# Altium footprint library QFP_Thin_Sq_40P_Side_L.PcbLib: 9 footprints
Each footprint in its own frame and in the unit in brackets; x right, y up, seen from the top. Pads: shape width x height; smd on the part's side, far side on the other; paste and mask are expansions set on the pad; w line width, h text height; cw(c..) or ccw(c..) is an arc to the next point about the centre after c.
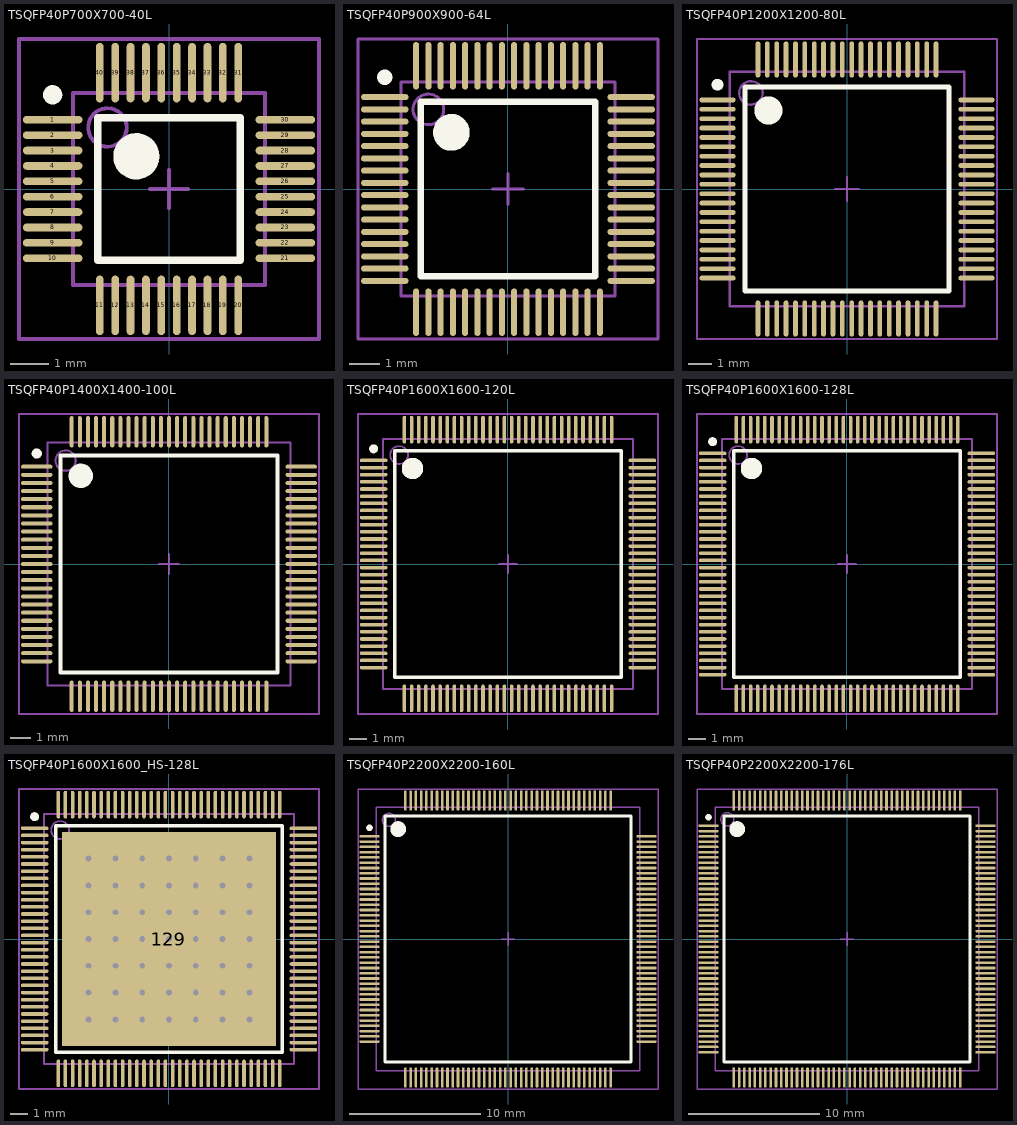
[diagram p0: the footprints below, top view; thin cyan lines are the x and y axes]

## TSQFP40P700X700-40L [mm] "Thin QFP, 40-Leads, Body 5x5mm, Pitch 0.4mm, IPC High Density"
height 1.2
pads (40):
  oval 1.55x0.2 smd: 1(-3.025,1.8) 2(-3.025,1.4) 3(-3.025,1) 4(-3.025,0.6) 5(-3.025,0.2) 6(-3.025,-0.2) 7(-3.025,-0.6) 8(-3.025,-1) 9(-3.025,-1.4) 10(-3.025,-1.8) 21(3.025,-1.8) 22(3.025,-1.4) 23(3.025,-1) 24(3.025,-0.6) 25(3.025,-0.2) 26(3.025,0.2) 27(3.025,0.6) 28(3.025,1) 29(3.025,1.4) 30(3.025,1.8)
  oval 0.2x1.55 smd: 11(-1.8,-3.025) 12(-1.4,-3.025) 13(-1,-3.025) 14(-0.6,-3.025) 15(-0.2,-3.025) 16(0.2,-3.025) 17(0.6,-3.025) 18(1,-3.025) 19(1.4,-3.025) 20(1.8,-3.025) 31(1.8,3.025) 32(1.4,3.025) 33(1,3.025) 34(0.6,3.025) 35(0.2,3.025) 36(-0.2,3.025) 37(-0.6,3.025) 38(-1,3.025) 39(-1.4,3.025) 40(-1.8,3.025)
Top Overlay:
  circle w0.25: c-3.025,2.45 r0.125
  circle w0.6: c-0.85,0.85 r0.3
  lines w0.2: -1.85,-1.85 -1.85,1.85 1.85,1.85 1.85,-1.85 -1.85,-1.85
Mechanical 13:
  circle w0.1: c-1.6,1.6 r0.5
  lines w0.1: -2.5,-2.5 -2.5,2.5 2.5,2.5 2.5,-2.5 -2.5,-2.5
Mechanical 15:
  lines w0.1: -0.5,0 0.5,0 ; 0,-0.5 0,0.5 ; -3.9,-3.9 -3.9,3.9 3.9,3.9 3.9,-3.9 -3.9,-3.9
3D body: height 1.2, standoff 0, extent -2.5,-2.5 2.5,2.5

## TSQFP40P900X900-64L [mm] "Thin QFP, 64-Leads, Body 7x7mm, Pitch 0.4mm, IPC High Density"
height 1.2
pads (64):
  oval 1.55x0.2 smd: 1(-4.025,3) 2(-4.025,2.6) 3(-4.025,2.2) 4(-4.025,1.8) 5(-4.025,1.4) 6(-4.025,1) 7(-4.025,0.6) 8(-4.025,0.2) 9(-4.025,-0.2) 10(-4.025,-0.6) 11(-4.025,-1) 12(-4.025,-1.4) 13(-4.025,-1.8) 14(-4.025,-2.2) 15(-4.025,-2.6) 16(-4.025,-3) 33(4.025,-3) 34(4.025,-2.6) 35(4.025,-2.2) 36(4.025,-1.8) 37(4.025,-1.4) 38(4.025,-1) 39(4.025,-0.6) 40(4.025,-0.2) 41(4.025,0.2) 42(4.025,0.6) 43(4.025,1) 44(4.025,1.4) 45(4.025,1.8) 46(4.025,2.2) 47(4.025,2.6) 48(4.025,3)
  oval 0.2x1.55 smd: 17(-3,-4.025) 18(-2.6,-4.025) 19(-2.2,-4.025) 20(-1.8,-4.025) 21(-1.4,-4.025) 22(-1,-4.025) 23(-0.6,-4.025) 24(-0.2,-4.025) 25(0.2,-4.025) 26(0.6,-4.025) 27(1,-4.025) 28(1.4,-4.025) 29(1.8,-4.025) 30(2.2,-4.025) 31(2.6,-4.025) 32(3,-4.025) 49(3,4.025) 50(2.6,4.025) 51(2.2,4.025) 52(1.8,4.025) 53(1.4,4.025) 54(1,4.025) 55(0.6,4.025) 56(0.2,4.025) 57(-0.2,4.025) 58(-0.6,4.025) 59(-1,4.025) 60(-1.4,4.025) 61(-1.8,4.025) 62(-2.2,4.025) 63(-2.6,4.025) 64(-3,4.025)
Top Overlay:
  circle w0.25: c-4.025,3.65 r0.125
  circle w0.6: c-1.85,1.85 r0.3
  lines w0.2: -2.85,-2.85 -2.85,2.85 2.85,2.85 2.85,-2.85 -2.85,-2.85
Mechanical 13:
  circle w0.1: c-2.6,2.6 r0.5
  lines w0.1: -3.5,-3.5 -3.5,3.5 3.5,3.5 3.5,-3.5 -3.5,-3.5
Mechanical 15:
  lines w0.1: -0.5,0 0.5,0 ; 0,-0.5 0,0.5 ; -4.9,-4.9 -4.9,4.9 4.9,4.9 4.9,-4.9 -4.9,-4.9
3D body: height 1.2, standoff 0, extent -3.5,-3.5 3.5,3.5

## TSQFP40P1200X1200-80L [mm] "Thin QFP, 80-Leads, Body 10x10mm, Pitch 0.4mm, IPC High Density"
height 1.2
pads (80):
  oval 1.55x0.2 smd: 1(-5.525,3.8) 2(-5.525,3.4) 3(-5.525,3) 4(-5.525,2.6) 5(-5.525,2.2) 6(-5.525,1.8) 7(-5.525,1.4) 8(-5.525,1) 9(-5.525,0.6) 10(-5.525,0.2) 11(-5.525,-0.2) 12(-5.525,-0.6) 13(-5.525,-1) 14(-5.525,-1.4) 15(-5.525,-1.8) 16(-5.525,-2.2) 17(-5.525,-2.6) 18(-5.525,-3) 19(-5.525,-3.4) 20(-5.525,-3.8) 41(5.525,-3.8) 42(5.525,-3.4) 43(5.525,-3) 44(5.525,-2.6) 45(5.525,-2.2) 46(5.525,-1.8) 47(5.525,-1.4) 48(5.525,-1) 49(5.525,-0.6) 50(5.525,-0.2) 51(5.525,0.2) 52(5.525,0.6) 53(5.525,1) 54(5.525,1.4) 55(5.525,1.8) 56(5.525,2.2) 57(5.525,2.6) 58(5.525,3) 59(5.525,3.4) 60(5.525,3.8)
  oval 0.2x1.55 smd: 21(-3.8,-5.525) 22(-3.4,-5.525) 23(-3,-5.525) 24(-2.6,-5.525) 25(-2.2,-5.525) 26(-1.8,-5.525) 27(-1.4,-5.525) 28(-1,-5.525) 29(-0.6,-5.525) 30(-0.2,-5.525) 31(0.2,-5.525) 32(0.6,-5.525) 33(1,-5.525) 34(1.4,-5.525) 35(1.8,-5.525) 36(2.2,-5.525) 37(2.6,-5.525) 38(3,-5.525) 39(3.4,-5.525) 40(3.8,-5.525) 61(3.8,5.525) 62(3.4,5.525) 63(3,5.525) 64(2.6,5.525) 65(2.2,5.525) 66(1.8,5.525) 67(1.4,5.525) 68(1,5.525) 69(0.6,5.525) 70(0.2,5.525) 71(-0.2,5.525) 72(-0.6,5.525) 73(-1,5.525) 74(-1.4,5.525) 75(-1.8,5.525) 76(-2.2,5.525) 77(-2.6,5.525) 78(-3,5.525) 79(-3.4,5.525) 80(-3.8,5.525)
Top Overlay:
  circle w0.25: c-5.525,4.45 r0.125
  circle w0.6: c-3.35,3.35 r0.3
  lines w0.2: -4.35,-4.35 -4.35,4.35 4.35,4.35 4.35,-4.35 -4.35,-4.35
Mechanical 13:
  circle w0.1: c-4.1,4.1 r0.5
  lines w0.1: -5,-5 -5,5 5,5 5,-5 -5,-5
Mechanical 15:
  lines w0.1: -0.5,0 0.5,0 ; 0,-0.5 0,0.5 ; -6.4,-6.4 -6.4,6.4 6.4,6.4 6.4,-6.4 -6.4,-6.4
3D body: height 1.2, standoff 0, extent -5,-5 5,5

## TSQFP40P1400X1400-100L [mm] "Thin QFP, 100-Leads, Body 12x12mm, Pitch 0.4mm, IPC High Density"
height 1.2
pads (100):
  oval 1.55x0.2 smd: 1(-6.525,4.8) 2(-6.525,4.4) 3(-6.525,4) 4(-6.525,3.6) 5(-6.525,3.2) 6(-6.525,2.8) 7(-6.525,2.4) 8(-6.525,2) 9(-6.525,1.6) 10(-6.525,1.2) 11(-6.525,0.8) 12(-6.525,0.4) 13(-6.525,0) 14(-6.525,-0.4) 15(-6.525,-0.8) 16(-6.525,-1.2) 17(-6.525,-1.6) 18(-6.525,-2) 19(-6.525,-2.4) 20(-6.525,-2.8) 21(-6.525,-3.2) 22(-6.525,-3.6) 23(-6.525,-4) 24(-6.525,-4.4) 25(-6.525,-4.8) 51(6.525,-4.8) 52(6.525,-4.4) 53(6.525,-4) 54(6.525,-3.6) 55(6.525,-3.2) 56(6.525,-2.8) 57(6.525,-2.4) 58(6.525,-2) 59(6.525,-1.6) 60(6.525,-1.2) 61(6.525,-0.8) 62(6.525,-0.4) 63(6.525,0) 64(6.525,0.4) 65(6.525,0.8) 66(6.525,1.2) 67(6.525,1.6) 68(6.525,2) 69(6.525,2.4) 70(6.525,2.8) 71(6.525,3.2) 72(6.525,3.6) 73(6.525,4) 74(6.525,4.4) 75(6.525,4.8)
  oval 0.2x1.55 smd: 26(-4.8,-6.525) 27(-4.4,-6.525) 28(-4,-6.525) 29(-3.6,-6.525) 30(-3.2,-6.525) 31(-2.8,-6.525) 32(-2.4,-6.525) 33(-2,-6.525) 34(-1.6,-6.525) 35(-1.2,-6.525) 36(-0.8,-6.525) 37(-0.4,-6.525) 38(0,-6.525) 39(0.4,-6.525) 40(0.8,-6.525) 41(1.2,-6.525) 42(1.6,-6.525) 43(2,-6.525) 44(2.4,-6.525) 45(2.8,-6.525) 46(3.2,-6.525) 47(3.6,-6.525) 48(4,-6.525) 49(4.4,-6.525) 50(4.8,-6.525) 76(4.8,6.525) 77(4.4,6.525) 78(4,6.525) 79(3.6,6.525) 80(3.2,6.525) 81(2.8,6.525) 82(2.4,6.525) 83(2,6.525) 84(1.6,6.525) 85(1.2,6.525) 86(0.8,6.525) 87(0.4,6.525) 88(0,6.525) 89(-0.4,6.525) 90(-0.8,6.525) 91(-1.2,6.525) 92(-1.6,6.525) 93(-2,6.525) 94(-2.4,6.525) 95(-2.8,6.525) 96(-3.2,6.525) 97(-3.6,6.525) 98(-4,6.525) 99(-4.4,6.525) 100(-4.8,6.525)
Top Overlay:
  circle w0.25: c-6.525,5.45 r0.125
  circle w0.6: c-4.35,4.35 r0.3
  lines w0.2: -5.35,-5.35 -5.35,5.35 5.35,5.35 5.35,-5.35 -5.35,-5.35
Mechanical 13:
  circle w0.1: c-5.1,5.1 r0.5
  lines w0.1: -6,-6 -6,6 6,6 6,-6 -6,-6
Mechanical 15:
  lines w0.1: -0.5,0 0.5,0 ; 0,-0.5 0,0.5 ; -7.4,-7.4 -7.4,7.4 7.4,7.4 7.4,-7.4 -7.4,-7.4
3D body: height 1.2, standoff 0, extent -6,-6 6,6

## TSQFP40P1600X1600-120L [mm] "Thin QFP, 120-Leads, Body 14x14mm, Pitch 0.4mm, IPC High Density"
height 1.2
pads (120):
  oval 1.55x0.2 smd: 1(-7.525,5.8) 2(-7.525,5.4) 3(-7.525,5) 4(-7.525,4.6) 5(-7.525,4.2) 6(-7.525,3.8) 7(-7.525,3.4) 8(-7.525,3) 9(-7.525,2.6) 10(-7.525,2.2) 11(-7.525,1.8) 12(-7.525,1.4) 13(-7.525,1) 14(-7.525,0.6) 15(-7.525,0.2) 16(-7.525,-0.2) 17(-7.525,-0.6) 18(-7.525,-1) 19(-7.525,-1.4) 20(-7.525,-1.8) 21(-7.525,-2.2) 22(-7.525,-2.6) 23(-7.525,-3) 24(-7.525,-3.4) 25(-7.525,-3.8) 26(-7.525,-4.2) 27(-7.525,-4.6) 28(-7.525,-5) 29(-7.525,-5.4) 30(-7.525,-5.8) 61(7.525,-5.8) 62(7.525,-5.4) 63(7.525,-5) 64(7.525,-4.6) 65(7.525,-4.2) 66(7.525,-3.8) 67(7.525,-3.4) 68(7.525,-3) 69(7.525,-2.6) 70(7.525,-2.2) 71(7.525,-1.8) 72(7.525,-1.4) 73(7.525,-1) 74(7.525,-0.6) 75(7.525,-0.2) 76(7.525,0.2) 77(7.525,0.6) 78(7.525,1) 79(7.525,1.4) 80(7.525,1.8) 81(7.525,2.2) 82(7.525,2.6) 83(7.525,3) 84(7.525,3.4) 85(7.525,3.8) 86(7.525,4.2) 87(7.525,4.6) 88(7.525,5) 89(7.525,5.4) 90(7.525,5.8)
  oval 0.2x1.55 smd: 31(-5.8,-7.525) 32(-5.4,-7.525) 33(-5,-7.525) 34(-4.6,-7.525) 35(-4.2,-7.525) 36(-3.8,-7.525) 37(-3.4,-7.525) 38(-3,-7.525) 39(-2.6,-7.525) 40(-2.2,-7.525) 41(-1.8,-7.525) 42(-1.4,-7.525) 43(-1,-7.525) 44(-0.6,-7.525) 45(-0.2,-7.525) 46(0.2,-7.525) 47(0.6,-7.525) 48(1,-7.525) 49(1.4,-7.525) 50(1.8,-7.525) 51(2.2,-7.525) 52(2.6,-7.525) 53(3,-7.525) 54(3.4,-7.525) 55(3.8,-7.525) 56(4.2,-7.525) 57(4.6,-7.525) 58(5,-7.525) 59(5.4,-7.525) 60(5.8,-7.525) 91(5.8,7.525) 92(5.4,7.525) 93(5,7.525) 94(4.6,7.525) 95(4.2,7.525) 96(3.8,7.525) 97(3.4,7.525) 98(3,7.525) 99(2.6,7.525) 100(2.2,7.525) 101(1.8,7.525) 102(1.4,7.525) 103(1,7.525) 104(0.6,7.525) 105(0.2,7.525) 106(-0.2,7.525) 107(-0.6,7.525) 108(-1,7.525) 109(-1.4,7.525) 110(-1.8,7.525) 111(-2.2,7.525) 112(-2.6,7.525) 113(-3,7.525) 114(-3.4,7.525) 115(-3.8,7.525) 116(-4.2,7.525) 117(-4.6,7.525) 118(-5,7.525) 119(-5.4,7.525) 120(-5.8,7.525)
Top Overlay:
  circle w0.25: c-7.525,6.45 r0.125
  circle w0.6: c-5.35,5.35 r0.3
  lines w0.2: -6.35,-6.35 -6.35,6.35 6.35,6.35 6.35,-6.35 -6.35,-6.35
Mechanical 13:
  circle w0.1: c-6.1,6.1 r0.5
  lines w0.1: -7,-7 -7,7 7,7 7,-7 -7,-7
Mechanical 15:
  lines w0.1: -0.5,0 0.5,0 ; 0,-0.5 0,0.5 ; -8.4,-8.4 -8.4,8.4 8.4,8.4 8.4,-8.4 -8.4,-8.4
3D body: height 1.2, standoff 0, extent -7,-7 7,7

## TSQFP40P1600X1600-128L [mm] "Thin QFP, 128-Leads, Body 14x14mm, Pitch 0.4mm, IPC High Density"
height 1.6
pads (128):
  oval 1.55x0.2 smd: 1(-7.525,6.2) 2(-7.525,5.8) 3(-7.525,5.4) 4(-7.525,5) 5(-7.525,4.6) 6(-7.525,4.2) 7(-7.525,3.8) 8(-7.525,3.4) 9(-7.525,3) 10(-7.525,2.6) 11(-7.525,2.2) 12(-7.525,1.8) 13(-7.525,1.4) 14(-7.525,1) 15(-7.525,0.6) 16(-7.525,0.2) 17(-7.525,-0.2) 18(-7.525,-0.6) 19(-7.525,-1) 20(-7.525,-1.4) 21(-7.525,-1.8) 22(-7.525,-2.2) 23(-7.525,-2.6) 24(-7.525,-3) 25(-7.525,-3.4) 26(-7.525,-3.8) 27(-7.525,-4.2) 28(-7.525,-4.6) 29(-7.525,-5) 30(-7.525,-5.4) 31(-7.525,-5.8) 32(-7.525,-6.2) 65(7.525,-6.2) 66(7.525,-5.8) 67(7.525,-5.4) 68(7.525,-5) 69(7.525,-4.6) 70(7.525,-4.2) 71(7.525,-3.8) 72(7.525,-3.4) 73(7.525,-3) 74(7.525,-2.6) 75(7.525,-2.2) 76(7.525,-1.8) 77(7.525,-1.4) 78(7.525,-1) 79(7.525,-0.6) 80(7.525,-0.2) 81(7.525,0.2) 82(7.525,0.6) 83(7.525,1) 84(7.525,1.4) 85(7.525,1.8) 86(7.525,2.2) 87(7.525,2.6) 88(7.525,3) 89(7.525,3.4) 90(7.525,3.8) 91(7.525,4.2) 92(7.525,4.6) 93(7.525,5) 94(7.525,5.4) 95(7.525,5.8) 96(7.525,6.2)
  oval 0.2x1.55 smd: 33(-6.2,-7.525) 34(-5.8,-7.525) 35(-5.4,-7.525) 36(-5,-7.525) 37(-4.6,-7.525) 38(-4.2,-7.525) 39(-3.8,-7.525) 40(-3.4,-7.525) 41(-3,-7.525) 42(-2.6,-7.525) 43(-2.2,-7.525) 44(-1.8,-7.525) 45(-1.4,-7.525) 46(-1,-7.525) 47(-0.6,-7.525) 48(-0.2,-7.525) 49(0.2,-7.525) 50(0.6,-7.525) 51(1,-7.525) 52(1.4,-7.525) 53(1.8,-7.525) 54(2.2,-7.525) 55(2.6,-7.525) 56(3,-7.525) 57(3.4,-7.525) 58(3.8,-7.525) 59(4.2,-7.525) 60(4.6,-7.525) 61(5,-7.525) 62(5.4,-7.525) 63(5.8,-7.525) 64(6.2,-7.525) 97(6.2,7.525) 98(5.8,7.525) 99(5.4,7.525) 100(5,7.525) 101(4.6,7.525) 102(4.2,7.525) 103(3.8,7.525) 104(3.4,7.525) 105(3,7.525) 106(2.6,7.525) 107(2.2,7.525) 108(1.8,7.525) 109(1.4,7.525) 110(1,7.525) 111(0.6,7.525) 112(0.2,7.525) 113(-0.2,7.525) 114(-0.6,7.525) 115(-1,7.525) 116(-1.4,7.525) 117(-1.8,7.525) 118(-2.2,7.525) 119(-2.6,7.525) 120(-3,7.525) 121(-3.4,7.525) 122(-3.8,7.525) 123(-4.2,7.525) 124(-4.6,7.525) 125(-5,7.525) 126(-5.4,7.525) 127(-5.8,7.525) 128(-6.2,7.525)
Top Overlay:
  circle w0.6: c-5.35,5.35 r0.3
  circle w0.25: c-7.525,6.85 r0.125
  lines w0.2: -6.35,-6.35 6.35,-6.35 6.35,6.35 -6.35,6.35 -6.35,-6.35
Mechanical 13:
  circle w0.1: c-6.1,6.1 r0.5
  lines w0.1: -7,-7 7,-7 7,7 -7,7 -7,-7
Mechanical 15:
  lines w0.1: -0.5,0 0.5,0 ; 0,-0.5 0,0.5 ; -8.4,-8.4 8.4,-8.4 8.4,8.4 -8.4,8.4 -8.4,-8.4
3D body: height 1.6, standoff 0, extent -7,-7 7,7

## TSQFP40P1600X1600_HS-128L [mm] "128-Pin Plastic Quad Flat Pack PowerPAD 0.4mm Pitch"
height 1.2
pads (129):
  oval 1.55x0.2 smd: 1(-7.525,6.2) 2(-7.525,5.8) 3(-7.525,5.4) 4(-7.525,5) 5(-7.525,4.6) 6(-7.525,4.2) 7(-7.525,3.8) 8(-7.525,3.4) 9(-7.525,3) 10(-7.525,2.6) 11(-7.525,2.2) 12(-7.525,1.8) 13(-7.525,1.4) 14(-7.525,1) 15(-7.525,0.6) 16(-7.525,0.2) 17(-7.525,-0.2) 18(-7.525,-0.6) 19(-7.525,-1) 20(-7.525,-1.4) 21(-7.525,-1.8) 22(-7.525,-2.2) 23(-7.525,-2.6) 24(-7.525,-3) 25(-7.525,-3.4) 26(-7.525,-3.8) 27(-7.525,-4.2) 28(-7.525,-4.6) 29(-7.525,-5) 30(-7.525,-5.4) 31(-7.525,-5.8) 32(-7.525,-6.2) 65(7.525,-6.2) 66(7.525,-5.8) 67(7.525,-5.4) 68(7.525,-5) 69(7.525,-4.6) 70(7.525,-4.2) 71(7.525,-3.8) 72(7.525,-3.4) 73(7.525,-3) 74(7.525,-2.6) 75(7.525,-2.2) 76(7.525,-1.8) 77(7.525,-1.4) 78(7.525,-1) 79(7.525,-0.6) 80(7.525,-0.2) 81(7.525,0.2) 82(7.525,0.6) 83(7.525,1) 84(7.525,1.4) 85(7.525,1.8) 86(7.525,2.2) 87(7.525,2.6) 88(7.525,3) 89(7.525,3.4) 90(7.525,3.8) 91(7.525,4.2) 92(7.525,4.6) 93(7.525,5) 94(7.525,5.4) 95(7.525,5.8) 96(7.525,6.2)
  oval 0.2x1.55 smd: 33(-6.2,-7.525) 34(-5.8,-7.525) 35(-5.4,-7.525) 36(-5,-7.525) 37(-4.6,-7.525) 38(-4.2,-7.525) 39(-3.8,-7.525) 40(-3.4,-7.525) 41(-3,-7.525) 42(-2.6,-7.525) 43(-2.2,-7.525) 44(-1.8,-7.525) 45(-1.4,-7.525) 46(-1,-7.525) 47(-0.6,-7.525) 48(-0.2,-7.525) 49(0.2,-7.525) 50(0.6,-7.525) 51(1,-7.525) 52(1.4,-7.525) 53(1.8,-7.525) 54(2.2,-7.525) 55(2.6,-7.525) 56(3,-7.525) 57(3.4,-7.525) 58(3.8,-7.525) 59(4.2,-7.525) 60(4.6,-7.525) 61(5,-7.525) 62(5.4,-7.525) 63(5.8,-7.525) 64(6.2,-7.525) 97(6.2,7.525) 98(5.8,7.525) 99(5.4,7.525) 100(5,7.525) 101(4.6,7.525) 102(4.2,7.525) 103(3.8,7.525) 104(3.4,7.525) 105(3,7.525) 106(2.6,7.525) 107(2.2,7.525) 108(1.8,7.525) 109(1.4,7.525) 110(1,7.525) 111(0.6,7.525) 112(0.2,7.525) 113(-0.2,7.525) 114(-0.6,7.525) 115(-1,7.525) 116(-1.4,7.525) 117(-1.8,7.525) 118(-2.2,7.525) 119(-2.6,7.525) 120(-3,7.525) 121(-3.4,7.525) 122(-3.8,7.525) 123(-4.2,7.525) 124(-4.6,7.525) 125(-5,7.525) 126(-5.4,7.525) 127(-5.8,7.525) 128(-6.2,7.525)
  rect 12x12 smd: 129(0,0)
via 0,0 diameter 0.43 hole 0.33
via 1.5,0 diameter 0.43 hole 0.33
via 3,0 diameter 0.43 hole 0.33
via 4.5,0 diameter 0.43 hole 0.33
via -1.5,0 diameter 0.43 hole 0.33
via -3,0 diameter 0.43 hole 0.33
via -4.5,0 diameter 0.43 hole 0.33
via -4.5,-1.5 diameter 0.43 hole 0.33
via -3,-1.5 diameter 0.43 hole 0.33
via -1.5,-1.5 diameter 0.43 hole 0.33
via 0,-1.5 diameter 0.43 hole 0.33
via 1.5,-1.5 diameter 0.43 hole 0.33
via 3,-1.5 diameter 0.43 hole 0.33
via 4.5,-1.5 diameter 0.43 hole 0.33
via 4.5,-3 diameter 0.43 hole 0.33
via 3,-3 diameter 0.43 hole 0.33
via 1.5,-3 diameter 0.43 hole 0.33
via 0,-3 diameter 0.43 hole 0.33
via -1.5,-3 diameter 0.43 hole 0.33
via -3,-3 diameter 0.43 hole 0.33
via -4.5,-3 diameter 0.43 hole 0.33
via 4.5,1.5 diameter 0.43 hole 0.33
via 3,1.5 diameter 0.43 hole 0.33
via 1.5,1.5 diameter 0.43 hole 0.33
via 0,1.5 diameter 0.43 hole 0.33
via -1.5,1.5 diameter 0.43 hole 0.33
via -3,1.5 diameter 0.43 hole 0.33
via -4.5,1.5 diameter 0.43 hole 0.33
via 4.5,3 diameter 0.43 hole 0.33
via 3,3 diameter 0.43 hole 0.33
via 1.5,3 diameter 0.43 hole 0.33
via 0,3 diameter 0.43 hole 0.33
via -1.5,3 diameter 0.43 hole 0.33
via -3,3 diameter 0.43 hole 0.33
via -4.5,3 diameter 0.43 hole 0.33
via 4.5,4.5 diameter 0.43 hole 0.33
via 3,4.5 diameter 0.43 hole 0.33
via 1.5,4.5 diameter 0.43 hole 0.33
via 0,4.5 diameter 0.43 hole 0.33
via -1.5,4.5 diameter 0.43 hole 0.33
via -3,4.5 diameter 0.43 hole 0.33
via -4.5,4.5 diameter 0.43 hole 0.33
via 4.5,-4.5 diameter 0.43 hole 0.33
via 3,-4.5 diameter 0.43 hole 0.33
via 1.5,-4.5 diameter 0.43 hole 0.33
via 0,-4.5 diameter 0.43 hole 0.33
via -1.5,-4.5 diameter 0.43 hole 0.33
via -3,-4.5 diameter 0.43 hole 0.33
via -4.5,-4.5 diameter 0.43 hole 0.33
Top Overlay:
  circle w0.6: c-5.35,5.35 r0.3
  circle w0.25: c-7.525,6.85 r0.125
  lines w0.2: -6.35,-6.35 6.35,-6.35 6.35,6.35 -6.35,6.35 -6.35,-6.35
Mechanical 13:
  circle w0.1: c-6.1,6.1 r0.5
  lines w0.1: -7,-7 7,-7 7,7 -7,7 -7,-7
Mechanical 15:
  lines w0.1: -0.5,0 0.5,0 ; 0,-0.5 0,0.5 ; -8.4,-8.4 8.4,-8.4 8.4,8.4 -8.4,8.4 -8.4,-8.4
3D body: height 1.2, standoff 0, extent -7,-7 7,7

## TSQFP40P2200X2200-160L [mm] "Thin QFP, 160-Leads, Body 20x20mm, Pitch 0.4mm, IPC High Density"
height 1.6
pads (160):
  oval 1.55x0.2 smd: 1(-10.525,7.8) 2(-10.525,7.4) 3(-10.525,7) 4(-10.525,6.6) 5(-10.525,6.2) 6(-10.525,5.8) 7(-10.525,5.4) 8(-10.525,5) 9(-10.525,4.6) 10(-10.525,4.2) 11(-10.525,3.8) 12(-10.525,3.4) 13(-10.525,3) 14(-10.525,2.6) 15(-10.525,2.2) 16(-10.525,1.8) 17(-10.525,1.4) 18(-10.525,1) 19(-10.525,0.6) 20(-10.525,0.2) 21(-10.525,-0.2) 22(-10.525,-0.6) 23(-10.525,-1) 24(-10.525,-1.4) 25(-10.525,-1.8) 26(-10.525,-2.2) 27(-10.525,-2.6) 28(-10.525,-3) 29(-10.525,-3.4) 30(-10.525,-3.8) 31(-10.525,-4.2) 32(-10.525,-4.6) 33(-10.525,-5) 34(-10.525,-5.4) 35(-10.525,-5.8) 36(-10.525,-6.2) 37(-10.525,-6.6) 38(-10.525,-7) 39(-10.525,-7.4) 40(-10.525,-7.8) 81(10.525,-7.8) 82(10.525,-7.4) 83(10.525,-7) 84(10.525,-6.6) 85(10.525,-6.2) 86(10.525,-5.8) 87(10.525,-5.4) 88(10.525,-5) 89(10.525,-4.6) 90(10.525,-4.2) 91(10.525,-3.8) 92(10.525,-3.4) 93(10.525,-3) 94(10.525,-2.6) 95(10.525,-2.2) 96(10.525,-1.8) 97(10.525,-1.4) 98(10.525,-1) 99(10.525,-0.6) 100(10.525,-0.2) 101(10.525,0.2) 102(10.525,0.6) 103(10.525,1) 104(10.525,1.4) 105(10.525,1.8) 106(10.525,2.2) 107(10.525,2.6) 108(10.525,3) 109(10.525,3.4) 110(10.525,3.8) 111(10.525,4.2) 112(10.525,4.6) 113(10.525,5) 114(10.525,5.4) 115(10.525,5.8) 116(10.525,6.2) 117(10.525,6.6) 118(10.525,7) 119(10.525,7.4) 120(10.525,7.8)
  oval 0.2x1.55 smd: 41(-7.8,-10.525) 42(-7.4,-10.525) 43(-7,-10.525) 44(-6.6,-10.525) 45(-6.2,-10.525) 46(-5.8,-10.525) 47(-5.4,-10.525) 48(-5,-10.525) 49(-4.6,-10.525) 50(-4.2,-10.525) 51(-3.8,-10.525) 52(-3.4,-10.525) 53(-3,-10.525) 54(-2.6,-10.525) 55(-2.2,-10.525) 56(-1.8,-10.525) 57(-1.4,-10.525) 58(-1,-10.525) 59(-0.6,-10.525) 60(-0.2,-10.525) 61(0.2,-10.525) 62(0.6,-10.525) 63(1,-10.525) 64(1.4,-10.525) 65(1.8,-10.525) 66(2.2,-10.525) 67(2.6,-10.525) 68(3,-10.525) 69(3.4,-10.525) 70(3.8,-10.525) 71(4.2,-10.525) 72(4.6,-10.525) 73(5,-10.525) 74(5.4,-10.525) 75(5.8,-10.525) 76(6.2,-10.525) 77(6.6,-10.525) 78(7,-10.525) 79(7.4,-10.525) 80(7.8,-10.525) 121(7.8,10.525) 122(7.4,10.525) 123(7,10.525) 124(6.6,10.525) 125(6.2,10.525) 126(5.8,10.525) 127(5.4,10.525) 128(5,10.525) 129(4.6,10.525) 130(4.2,10.525) 131(3.8,10.525) 132(3.4,10.525) 133(3,10.525) 134(2.6,10.525) 135(2.2,10.525) 136(1.8,10.525) 137(1.4,10.525) 138(1,10.525) 139(0.6,10.525) 140(0.2,10.525) 141(-0.2,10.525) 142(-0.6,10.525) 143(-1,10.525) 144(-1.4,10.525) 145(-1.8,10.525) 146(-2.2,10.525) 147(-2.6,10.525) 148(-3,10.525) 149(-3.4,10.525) 150(-3.8,10.525) 151(-4.2,10.525) 152(-4.6,10.525) 153(-5,10.525) 154(-5.4,10.525) 155(-5.8,10.525) 156(-6.2,10.525) 157(-6.6,10.525) 158(-7,10.525) 159(-7.4,10.525) 160(-7.8,10.525)
Top Overlay:
  circle w0.6: c-8.35,8.35 r0.3
  circle w0.25: c-10.525,8.45 r0.125
  lines w0.2: -9.35,-9.35 9.35,-9.35 9.35,9.35 -9.35,9.35 -9.35,-9.35
Mechanical 13:
  circle w0.1: c-9.05,9.05 r0.5
  lines w0.1: -10,-10 10,-10 10,10 -10,10 -10,-10
Mechanical 15:
  lines w0.1: -0.5,0 0.5,0 ; 0,-0.5 0,0.5 ; -11.4,-11.4 11.4,-11.4 11.4,11.4 -11.4,11.4 -11.4,-11.4
3D body: height 1.6, standoff 0.05, extent -10,-10 10,10

## TSQFP40P2200X2200-176L [mm] "Thin QFP, 176-Leads, Body 20x20mm, Pitch 0.4mm, IPC High Density"
height 1.2
pads (176):
  oval 1.55x0.2 smd: 1(-10.525,8.6) 2(-10.525,8.2) 3(-10.525,7.8) 4(-10.525,7.4) 5(-10.525,7) 6(-10.525,6.6) 7(-10.525,6.2) 8(-10.525,5.8) 9(-10.525,5.4) 10(-10.525,5) 11(-10.525,4.6) 12(-10.525,4.2) 13(-10.525,3.8) 14(-10.525,3.4) 15(-10.525,3) 16(-10.525,2.6) 17(-10.525,2.2) 18(-10.525,1.8) 19(-10.525,1.4) 20(-10.525,1) 21(-10.525,0.6) 22(-10.525,0.2) 23(-10.525,-0.2) 24(-10.525,-0.6) 25(-10.525,-1) 26(-10.525,-1.4) 27(-10.525,-1.8) 28(-10.525,-2.2) 29(-10.525,-2.6) 30(-10.525,-3) 31(-10.525,-3.4) 32(-10.525,-3.8) 33(-10.525,-4.2) 34(-10.525,-4.6) 35(-10.525,-5) 36(-10.525,-5.4) 37(-10.525,-5.8) 38(-10.525,-6.2) 39(-10.525,-6.6) 40(-10.525,-7) 41(-10.525,-7.4) 42(-10.525,-7.8) 43(-10.525,-8.2) 44(-10.525,-8.6) 89(10.525,-8.6) 90(10.525,-8.2) 91(10.525,-7.8) 92(10.525,-7.4) 93(10.525,-7) 94(10.525,-6.6) 95(10.525,-6.2) 96(10.525,-5.8) 97(10.525,-5.4) 98(10.525,-5) 99(10.525,-4.6) 100(10.525,-4.2) 101(10.525,-3.8) 102(10.525,-3.4) 103(10.525,-3) 104(10.525,-2.6) 105(10.525,-2.2) 106(10.525,-1.8) 107(10.525,-1.4) 108(10.525,-1) 109(10.525,-0.6) 110(10.525,-0.2) 111(10.525,0.2) 112(10.525,0.6) 113(10.525,1) 114(10.525,1.4) 115(10.525,1.8) 116(10.525,2.2) 117(10.525,2.6) 118(10.525,3) 119(10.525,3.4) 120(10.525,3.8) 121(10.525,4.2) 122(10.525,4.6) 123(10.525,5) 124(10.525,5.4) 125(10.525,5.8) 126(10.525,6.2) 127(10.525,6.6) 128(10.525,7) 129(10.525,7.4) 130(10.525,7.8) 131(10.525,8.2) 132(10.525,8.6)
  oval 0.2x1.55 smd: 45(-8.6,-10.525) 46(-8.2,-10.525) 47(-7.8,-10.525) 48(-7.4,-10.525) 49(-7,-10.525) 50(-6.6,-10.525) 51(-6.2,-10.525) 52(-5.8,-10.525) 53(-5.4,-10.525) 54(-5,-10.525) 55(-4.6,-10.525) 56(-4.2,-10.525) 57(-3.8,-10.525) 58(-3.4,-10.525) 59(-3,-10.525) 60(-2.6,-10.525) 61(-2.2,-10.525) 62(-1.8,-10.525) 63(-1.4,-10.525) 64(-1,-10.525) 65(-0.6,-10.525) 66(-0.2,-10.525) 67(0.2,-10.525) 68(0.6,-10.525) 69(1,-10.525) 70(1.4,-10.525) 71(1.8,-10.525) 72(2.2,-10.525) 73(2.6,-10.525) 74(3,-10.525) 75(3.4,-10.525) 76(3.8,-10.525) 77(4.2,-10.525) 78(4.6,-10.525) 79(5,-10.525) 80(5.4,-10.525) 81(5.8,-10.525) 82(6.2,-10.525) 83(6.6,-10.525) 84(7,-10.525) 85(7.4,-10.525) 86(7.8,-10.525) 87(8.2,-10.525) 88(8.6,-10.525) 133(8.6,10.525) 134(8.2,10.525) 135(7.8,10.525) 136(7.4,10.525) 137(7,10.525) 138(6.6,10.525) 139(6.2,10.525) 140(5.8,10.525) 141(5.4,10.525) 142(5,10.525) 143(4.6,10.525) 144(4.2,10.525) 145(3.8,10.525) 146(3.4,10.525) 147(3,10.525) 148(2.6,10.525) 149(2.2,10.525) 150(1.8,10.525) 151(1.4,10.525) 152(1,10.525) 153(0.6,10.525) 154(0.2,10.525) 155(-0.2,10.525) 156(-0.6,10.525) 157(-1,10.525) 158(-1.4,10.525) 159(-1.8,10.525) 160(-2.2,10.525) 161(-2.6,10.525) 162(-3,10.525) 163(-3.4,10.525) 164(-3.8,10.525) 165(-4.2,10.525) 166(-4.6,10.525) 167(-5,10.525) 168(-5.4,10.525) 169(-5.8,10.525) 170(-6.2,10.525) 171(-6.6,10.525) 172(-7,10.525) 173(-7.4,10.525) 174(-7.8,10.525) 175(-8.2,10.525) 176(-8.6,10.525)
Top Overlay:
  circle w0.25: c-10.525,9.25 r0.125
  circle w0.6: c-8.35,8.35 r0.3
  lines w0.2: -9.35,-9.35 -9.35,9.35 9.35,9.35 9.35,-9.35 -9.35,-9.35
Mechanical 13:
  circle w0.1: c-9.1,9.1 r0.5
  lines w0.1: -10,-10 -10,10 10,10 10,-10 -10,-10
Mechanical 15:
  lines w0.1: -0.5,0 0.5,0 ; 0,-0.5 0,0.5 ; -11.4,-11.4 -11.4,11.4 11.4,11.4 11.4,-11.4 -11.4,-11.4
3D body: height 1.2, standoff 0, extent -10,-10 10,10